# Altium footprint library 28Pins_Project_V1I1.PcbLib: 2 footprints
Each footprint in its own frame and in the unit in brackets; x right, y up, seen from the top. Pads: shape width x height; smd on the part's side, far side on the other; paste and mask are expansions set on the pad; w line width, h text height; cw(c..) or ccw(c..) is an arc to the next point about the centre after c.
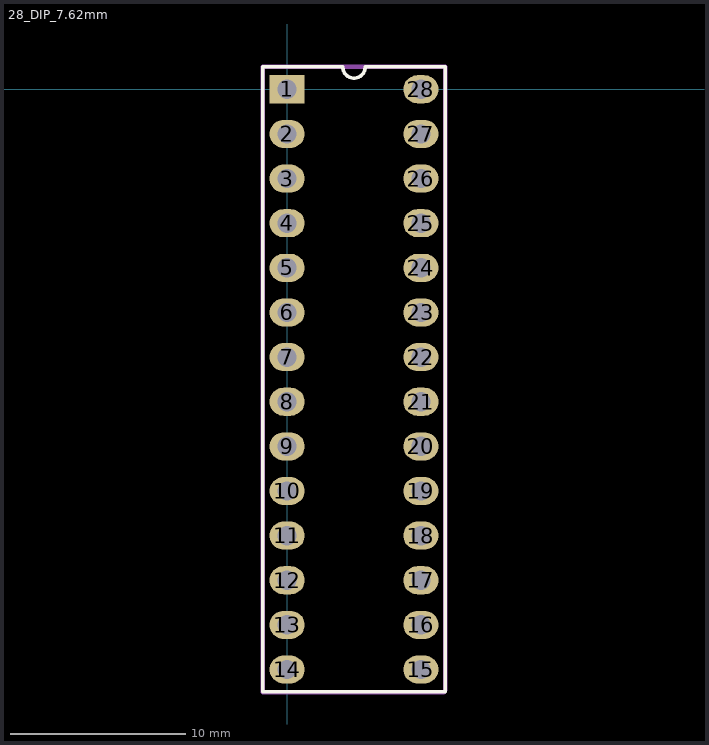
[diagram p0: the footprints below, top view; thin cyan lines are the x and y axes]

## 28_DIP_7.62mm [mm]
pads (28):
  rect 2x1.6 hole 1.1: 1(0,0)
  oval 2x1.6 hole 1.1: 2(0,-2.54) 3(0,-5.08) 4(0,-7.62) 5(0,-10.16) 6(0,-12.7) 7(0,-15.24) 8(0,-17.78) 9(0,-20.32) 10(0,-22.86) 11(0,-25.4) 12(0,-27.94) 13(0,-30.48) 14(0,-33.02) 15(7.62,-33.02) 16(7.62,-30.48) 17(7.62,-27.94) 18(7.62,-25.4) 19(7.62,-22.86) 20(7.62,-20.32) 21(7.62,-17.78) 22(7.62,-15.24) 23(7.62,-12.7) 24(7.62,-10.16) 25(7.62,-7.62) 26(7.62,-5.08) 27(7.62,-2.54) 28(7.62,0)
Top Overlay:
  lines w0.2: -1.39,-34.29 -1.39,1.27 3.175,1.27 ccw(c3.81,1.27) 4.445,1.27 9.01,1.27 9.01,-34.29 -1.39,-34.29
Mechanical 29:
  circle w0.5: c0,0 r0.237
  lines w0.254: -1.39,-34.31 8.91,-34.31 9.01,-34.21 9.01,1.29 -1.39,1.29 -1.39,-34.31
  text ".Designator" at 4.39,-13.856 h2
3D body "User Library-28 pin dip-1.step": height 4.85, standoff -1.37, extent -0.227,-34.451 7.647,1.49

## PCBComponent_1 [mm]